# EAGLE library part PSCQ-2- (library minicircuits)
Power Splitter / Combiner 2 Way-90° Source: minicircuits.com .. PSCQ-2-10.5.pdf
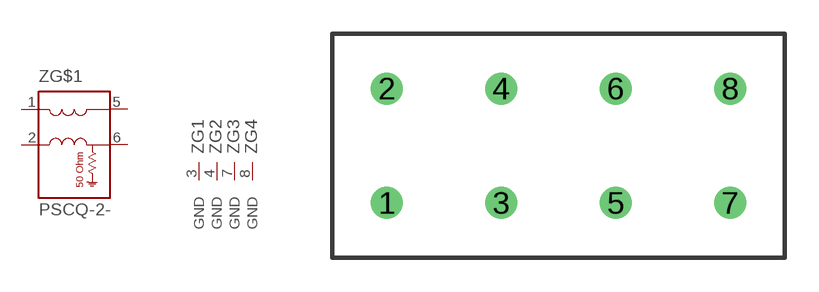
[diagram p3: symbol with the pads of A01; footprint A01]

Designator prefix Z; gates G1=GROUND G2=GROUND G3=GROUND G$1=POWER-SPLITTER-EXTERNAL_50OHM G4=GROUND

## PSCQ-2-10.5 (OC_FARNELL: unknown; OC_NEWARK: unknown), PSCQ-2-120 (OC_FARNELL: unknown; OC_NEWARK: unknown)  [A01]
1  G$1:SUM  in
2  G$1:PORT1  in
3  G1:GND  pwr
4  G2:GND  pwr
5  G$1:PORT2  in
6  G$1:X  in
7  G3:GND  pwr
8  G4:GND  pwr

## Footprint A01 (pad centres in mm)
CASE STYLE A01 Source: minicircuits.com .. PBP-10.7+.pdf
drill 0.9 pad 1.422 round: 1 -7.62,-2.54; 2 -7.62,2.54; 3 -2.54,-2.54; 4 -2.54,2.54; 5 2.54,-2.54; 6 2.54,2.54; 7 7.62,-2.54; 8 7.62,2.54